# Altium footprint library Alt.PcbLib: 21 footprints (part 2 of 2)
Each footprint in its own frame and in the unit in brackets; x right, y up, seen from the top. Pads: shape width x height; smd on the part's side, far side on the other; paste and mask are expansions set on the pad; w line width, h text height; cw(c..) or ccw(c..) is an arc to the next point about the centre after c.
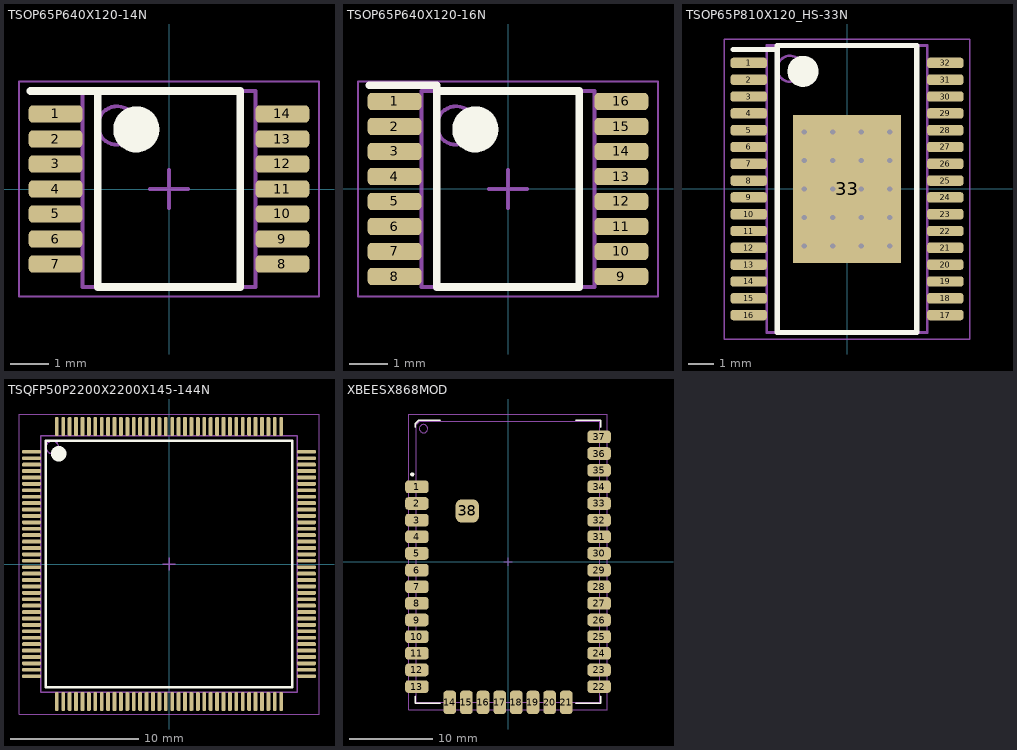
[diagram p1: the footprints below, top view; thin cyan lines are the x and y axes]

## TSOP65P640X120-14N [mm] "TSOP, 14-Leads, Body 5.00x4.40mm, Pitch 0.65mm, IPC Medium Density"
height 1.2
pads (14):
  rrect50% 1.4x0.45 smd mask+0.051: 1(-2.95,1.95) 2(-2.95,1.3) 3(-2.95,0.65) 4(-2.95,0) 5(-2.95,-0.65) 6(-2.95,-1.3) 7(-2.95,-1.95) 8(2.95,-1.95) 9(2.95,-1.3) 10(2.95,-0.65) 11(2.95,0) 12(2.95,0.65) 13(2.95,1.3) 14(2.95,1.95)
Top Overlay:
  circle w0.6: c-0.85,1.55 r0.3
  lines w0.2: -3.6,2.55 -1.85,2.55 ; -1.85,2.55 -1.85,-2.55 1.85,-2.55 1.85,2.55 -1.85,2.55
Assembly Top:
  circle w0.1: c-1.35,1.65 r0.5
  lines w0.1: -2.25,-2.55 -2.25,2.55 2.25,2.55 2.25,-2.55 -2.25,-2.55
Courtyard Top:
  lines w0.05: -3.9,-2.8 -3.9,2.8 3.9,2.8 3.9,-2.8 -3.9,-2.8
  lines w0.1: -0.5,0 0.5,0 ; 0,-0.5 0,0.5
3D body "TSOP65P640X120-14N.step": height 1.2, standoff 0, extent -3.2,-2.55 3.2,2.55

## TSOP65P640X120-16N [mm] "TSOP, 16-Leads, Body 5.00x4.40mm, Pitch 0.65mm, IPC Medium Density"
height 1.2
pads (16):
  rrect50% 1.4x0.45 smd mask+0.051: 1(-2.95,2.275) 2(-2.95,1.625) 3(-2.95,0.975) 4(-2.95,0.325) 5(-2.95,-0.325) 6(-2.95,-0.975) 7(-2.95,-1.625) 8(-2.95,-2.275) 9(2.95,-2.275) 10(2.95,-1.625) 11(2.95,-0.975) 12(2.95,-0.325) 13(2.95,0.325) 14(2.95,0.975) 15(2.95,1.625) 16(2.95,2.275)
Top Overlay:
  circle w0.6: c-0.85,1.55 r0.3
  lines w0.2: -3.6,2.7 -1.85,2.7 -1.85,2.55 ; -1.85,2.55 -1.85,-2.55 1.85,-2.55 1.85,2.55 -1.85,2.55
Assembly Top:
  circle w0.1: c-1.35,1.65 r0.5
  lines w0.1: -2.25,-2.55 -2.25,2.55 2.25,2.55 2.25,-2.55 -2.25,-2.55
Courtyard Top:
  lines w0.05: -3.9,-2.8 -3.9,2.8 3.9,2.8 3.9,-2.8 -3.9,-2.8
  lines w0.1: -0.5,0 0.5,0 ; 0,-0.5 0,0.5
3D body "TSOP65P640X120-16N.step": height 1.2, standoff 0, extent -3.2,-2.55 3.2,2.55

## TSOP65P810X120_HS-33N [mm] "TSOP, 32-Leads, Body 11.00x6.10mm, Pitch 0.65mm, Thermal Pad 5.72x4.16mm, IPC Medium Density"
height 1.2
pads (33):
  rrect50% 1.4x0.4 smd mask+0.051: 1(-3.8,4.875) 2(-3.8,4.225) 3(-3.8,3.575) 4(-3.8,2.925) 5(-3.8,2.275) 6(-3.8,1.625) 7(-3.8,0.975) 8(-3.8,0.325) 9(-3.8,-0.325) 10(-3.8,-0.975) 11(-3.8,-1.625) 12(-3.8,-2.275) 13(-3.8,-2.925) 14(-3.8,-3.575) 15(-3.8,-4.225) 16(-3.8,-4.875) 17(3.8,-4.875) 18(3.8,-4.225) 19(3.8,-3.575) 20(3.8,-2.925) 21(3.8,-2.275) 22(3.8,-1.625) 23(3.8,-0.975) 24(3.8,-0.325) 25(3.8,0.325) 26(3.8,0.975) 27(3.8,1.625) 28(3.8,2.275) 29(3.8,2.925) 30(3.8,3.575) 31(3.8,4.225) 32(3.8,4.875)
  rect 4.16x5.72 smd: 33(0,0)
via -1.65,2.2 diameter 0.5 hole 0.2
via -0.55,2.2 diameter 0.5 hole 0.2
via 0.55,2.2 diameter 0.5 hole 0.2
via 1.65,2.2 diameter 0.5 hole 0.2
via -1.65,1.1 diameter 0.5 hole 0.2
via -0.55,1.1 diameter 0.5 hole 0.2
via 0.55,1.1 diameter 0.5 hole 0.2
via 1.65,1.1 diameter 0.5 hole 0.2
via -1.65,0 diameter 0.5 hole 0.2
via -0.55,0 diameter 0.5 hole 0.2
via 0.55,0 diameter 0.5 hole 0.2
via 1.65,0 diameter 0.5 hole 0.2
via -1.65,-1.1 diameter 0.5 hole 0.2
via -0.55,-1.1 diameter 0.5 hole 0.2
via 0.55,-1.1 diameter 0.5 hole 0.2
via 1.65,-1.1 diameter 0.5 hole 0.2
via -1.65,-2.2 diameter 0.5 hole 0.2
via -0.55,-2.2 diameter 0.5 hole 0.2
via 0.55,-2.2 diameter 0.5 hole 0.2
via 1.65,-2.2 diameter 0.5 hole 0.2
Top Overlay:
  circle w0.6: c-1.7,4.55 r0.3
  lines w0.2: -4.4,5.4 -2.7,5.4 ; -2.7,-5.55 -2.7,5.55 2.7,5.55 2.7,-5.55 -2.7,-5.55
Assembly Top:
  circle w0.1: c-2.2,4.65 r0.5
  lines w0.1: -3.1,-5.55 -3.1,5.55 3.1,5.55 3.1,-5.55 -3.1,-5.55
Courtyard Top:
  lines w0.05: -4.75,-5.8 -4.75,5.8 4.75,5.8 4.75,-5.8 -4.75,-5.8
  lines w0.1: -0.5,0 0.5,0 ; 0,-0.5 0,0.5
3D body "TSOP65P810X120_HS-33N.step": height 1.2, standoff 0, extent -4.05,-5.55 4.05,5.55

## TSQFP50P2200X2200X145-144N [mm] "TSQFP, 144-Leads, Body 20.00x20.00mm, Pitch 0.50mm, IPC Medium Density"
height 1.45
pads (144):
  rrect50% 1.45x0.3 smd mask+0.05: 1(-10.725,8.75) 2(-10.725,8.25) 3(-10.725,7.75) 4(-10.725,7.25) 5(-10.725,6.75) 6(-10.725,6.25) 7(-10.725,5.75) 8(-10.725,5.25) 9(-10.725,4.75) 10(-10.725,4.25) 11(-10.725,3.75) 12(-10.725,3.25) 13(-10.725,2.75) 14(-10.725,2.25) 15(-10.725,1.75) 16(-10.725,1.25) 17(-10.725,0.75) 18(-10.725,0.25) 19(-10.725,-0.25) 20(-10.725,-0.75) 21(-10.725,-1.25) 22(-10.725,-1.75) 23(-10.725,-2.25) 24(-10.725,-2.75) 25(-10.725,-3.25) 26(-10.725,-3.75) 27(-10.725,-4.25) 28(-10.725,-4.75) 29(-10.725,-5.25) 30(-10.725,-5.75) 31(-10.725,-6.25) 32(-10.725,-6.75) 33(-10.725,-7.25) 34(-10.725,-7.75) 35(-10.725,-8.25) 36(-10.725,-8.75) 73(10.725,-8.75) 74(10.725,-8.25) 75(10.725,-7.75) 76(10.725,-7.25) 77(10.725,-6.75) 78(10.725,-6.25) 79(10.725,-5.75) 80(10.725,-5.25) 81(10.725,-4.75) 82(10.725,-4.25) 83(10.725,-3.75) 84(10.725,-3.25) 85(10.725,-2.75) 86(10.725,-2.25) 87(10.725,-1.75) 88(10.725,-1.25) 89(10.725,-0.75) 90(10.725,-0.25) 91(10.725,0.25) 92(10.725,0.75) 93(10.725,1.25) 94(10.725,1.75) 95(10.725,2.25) 96(10.725,2.75) 97(10.725,3.25) 98(10.725,3.75) 99(10.725,4.25) 100(10.725,4.75) 101(10.725,5.25) 102(10.725,5.75) 103(10.725,6.25) 104(10.725,6.75) 105(10.725,7.25) 106(10.725,7.75) 107(10.725,8.25) 108(10.725,8.75)
  rrect50% 0.3x1.45 smd mask+0.05: 37(-8.75,-10.725) 38(-8.25,-10.725) 39(-7.75,-10.725) 40(-7.25,-10.725) 41(-6.75,-10.725) 42(-6.25,-10.725) 43(-5.75,-10.725) 44(-5.25,-10.725) 45(-4.75,-10.725) 46(-4.25,-10.725) 47(-3.75,-10.725) 48(-3.25,-10.725) 49(-2.75,-10.725) 50(-2.25,-10.725) 51(-1.75,-10.725) 52(-1.25,-10.725) 53(-0.75,-10.725) 54(-0.25,-10.725) 55(0.25,-10.725) 56(0.75,-10.725) 57(1.25,-10.725) 58(1.75,-10.725) 59(2.25,-10.725) 60(2.75,-10.725) 61(3.25,-10.725) 62(3.75,-10.725) 63(4.25,-10.725) 64(4.75,-10.725) 65(5.25,-10.725) 66(5.75,-10.725) 67(6.25,-10.725) 68(6.75,-10.725) 69(7.25,-10.725) 70(7.75,-10.725) 71(8.25,-10.725) 72(8.75,-10.725) 109(8.75,10.725) 110(8.25,10.725) 111(7.75,10.725) 112(7.25,10.725) 113(6.75,10.725) 114(6.25,10.725) 115(5.75,10.725) 116(5.25,10.725) 117(4.75,10.725) 118(4.25,10.725) 119(3.75,10.725) 120(3.25,10.725) 121(2.75,10.725) 122(2.25,10.725) 123(1.75,10.725) 124(1.25,10.725) 125(0.75,10.725) 126(0.25,10.725) 127(-0.25,10.725) 128(-0.75,10.725) 129(-1.25,10.725) 130(-1.75,10.725) 131(-2.25,10.725) 132(-2.75,10.725) 133(-3.25,10.725) 134(-3.75,10.725) 135(-4.25,10.725) 136(-4.75,10.725) 137(-5.25,10.725) 138(-5.75,10.725) 139(-6.25,10.725) 140(-6.75,10.725) 141(-7.25,10.725) 142(-7.75,10.725) 143(-8.25,10.725) 144(-8.75,10.725)
Top Overlay:
  circle w0.6: c-8.6,8.6 r0.3
  lines w0.2: -9.6,-9.6 -9.6,9.6 9.6,9.6 9.6,-9.6 -9.6,-9.6
Assembly Top:
  circle w0.1: c-9.1,9.1 r0.5
  lines w0.1: -10,-10 -10,10 10,10 10,-10 -10,-10
Courtyard Top:
  lines w0.05: -11.7,-11.7 -11.7,11.7 11.7,11.7 11.7,-11.7 -11.7,-11.7
  lines w0.1: -0.5,0 0.5,0 ; 0,-0.5 0,0.5
3D body "TSQFP50P2200X2200X145-144N.step": height 1.45, standoff 0, extent -11,-11 11,11

## XBEESX868MOD [mm] "LCC, 48-Pins, Body 22.10x33.78mmx3.50mm, Pitch 2.00mm, IPC Medium Density"
height 3.5
pads (38):
  rrect50% 2.8x1.52 smd: 1(-10.95,9) 2(-10.95,7) 3(-10.95,5) 4(-10.95,3) 5(-10.95,1) 6(-10.95,-1) 7(-10.95,-3) 8(-10.95,-5) 9(-10.95,-7) 10(-10.95,-9) 11(-10.95,-11) 12(-10.95,-13) 13(-10.95,-15) 22(10.95,-15) 23(10.95,-13) 24(10.95,-11) 25(10.95,-9) 26(10.95,-7) 27(10.95,-5) 28(10.95,-3) 29(10.95,-1) 30(10.95,1) 31(10.95,3) 32(10.95,5) 33(10.95,7) 34(10.95,9) 35(10.95,11) 36(10.95,13) 37(10.95,15)
  rrect50% 1.52x2.8 smd: 14(-7,-16.89) 15(-5,-16.89) 16(-3,-16.89) 17(-1,-16.89) 18(1,-16.89) 19(3,-16.89) 20(5,-16.89) 21(7,-16.89)
  rrect50% 2.79x2.79 smd: 38(-4.9,6.1)
Top Overlay:
  circle w0.25: c-11.5,10.5 r0.125
  lines w0.2: -11.15,-16.16 -11.15,-17 -8.16,-17 ; -11.15,16.16 -11.15,16.58 -10.73,17 -8.16,17 ; 8.16,-17 11.15,-17 11.15,-16.16 ; 8.16,17 11.15,17 11.15,16.16
Assembly Top:
  circle w0.1: c-10.15,15.99 r0.5
  lines w0.1: -11.05,-16.89 -11.05,16.47 -10.63,16.89 11.05,16.89 11.05,-16.89 -11.05,-16.89
Courtyard Top:
  lines w0.05: -11.925,-17.75 -11.925,17.75 11.925,17.75 11.925,-17.75 -11.925,-17.75
  lines w0.1: -0.5,0 0.5,0 ; 0,-0.5 0,0.5
3D body "XBEESX868MOD.step": height 3.5, standoff 0, extent -11.05,-16.891 11.05,16.891